# Altium footprint library CONN IPL1-102-02-X-S.PcbLib: 1 footprints
Each footprint in its own frame and in the unit in brackets; x right, y up, seen from the top. Pads: shape width x height; smd on the part's side, far side on the other; paste and mask are expansions set on the pad; w line width, h text height; cw(c..) or ccw(c..) is an arc to the next point about the centre after c.
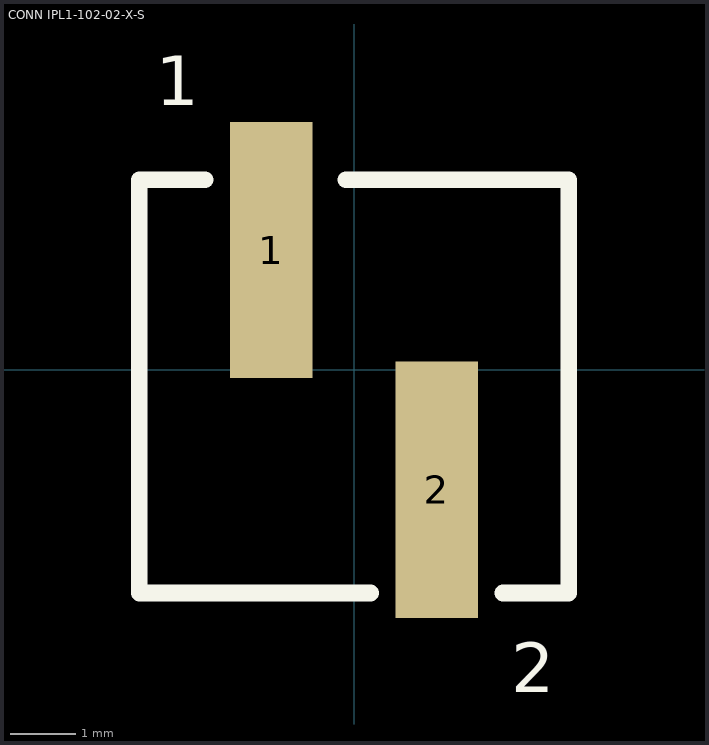
[diagram p0: the footprint, top view; thin cyan lines are the x and y axes]

## CONN IPL1-102-02-X-S [mil]
pads (2):
  rect 50x155 smd: 1(-50,72.5) 2(50,-72.5)
Top Overlay:
  lines w10: -90,115 -130,115 -130,-135 10,-135 ; -5,115 130,115 130,-135 90,-135
  text "2" at 95,-195 h30
  text "1" at -120,160 h30
3D body: height 345.6, standoff 0.6, extent -129.99,-150 130.01,138.5